# Altium schematic symbol library FPC_10.Schlib: 1 symbol
Pins are listed as number, name and electrical type; pins without a type are passive.

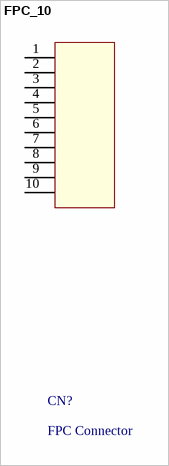
[diagram p0: symbol FPC_10]

## FPC_10
designator CN?, comment FPC Connector
FFC & FPC Connectors VERTICAL SMT ZIF 10P
pins: 1, 2, 3, 4, 5, 6, 7, 8, 9, 10